# Altium footprint library Phoenix3er.PcbLib: 1 footprints
Each footprint in its own frame and in the unit in brackets; x right, y up, seen from the top. Pads: shape width x height; smd on the part's side, far side on the other; paste and mask are expansions set on the pad; w line width, h text height; cw(c..) or ccw(c..) is an arc to the next point about the centre after c.
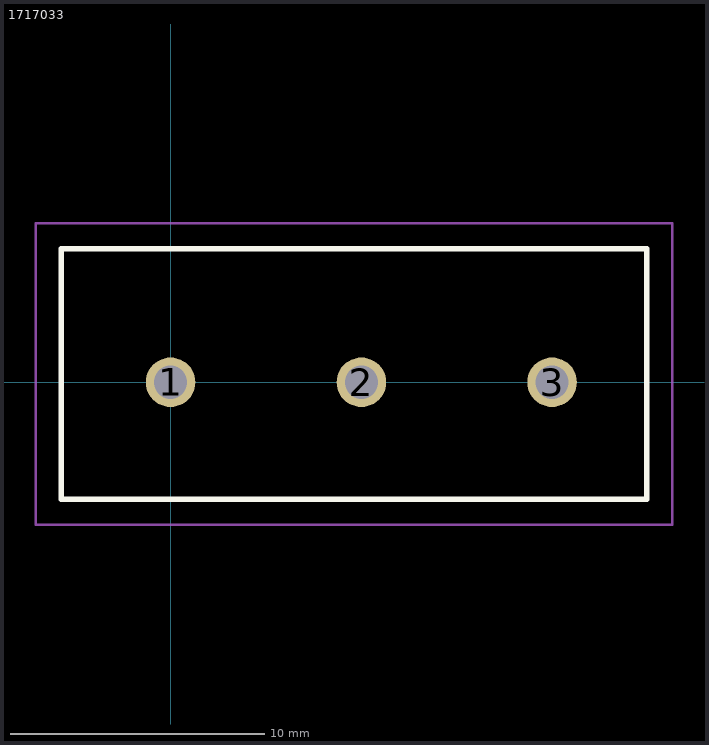
[diagram p0: the footprint, top view; thin cyan lines are the x and y axes]

## 1717033 [mm]
pads (3):
  round 1.95 hole 1.3: 1(0,0) 2(7.5,0) 3(15,0)
Top Overlay:
  lines w0.2: -4.3,-4.6 18.72,-4.6 18.72,5.25 -4.3,5.25 -4.3,-4.6
Mechanical 15:
  lines w0.1: -4.3,-4.6 18.72,-4.6 18.72,5.25 -4.3,5.25 -4.3,-4.6
Mechanical 20:
  lines w0.1: -5.3,-5.6 19.72,-5.6 19.72,6.25 -5.3,6.25 -5.3,-5.6